# Altium footprint library INC_conn_lib.PcbLib: 3 footprints
Each footprint in its own frame and in the unit in brackets; x right, y up, seen from the top. Pads: shape width x height; smd on the part's side, far side on the other; paste and mask are expansions set on the pad; w line width, h text height; cw(c..) or ccw(c..) is an arc to the next point about the centre after c.
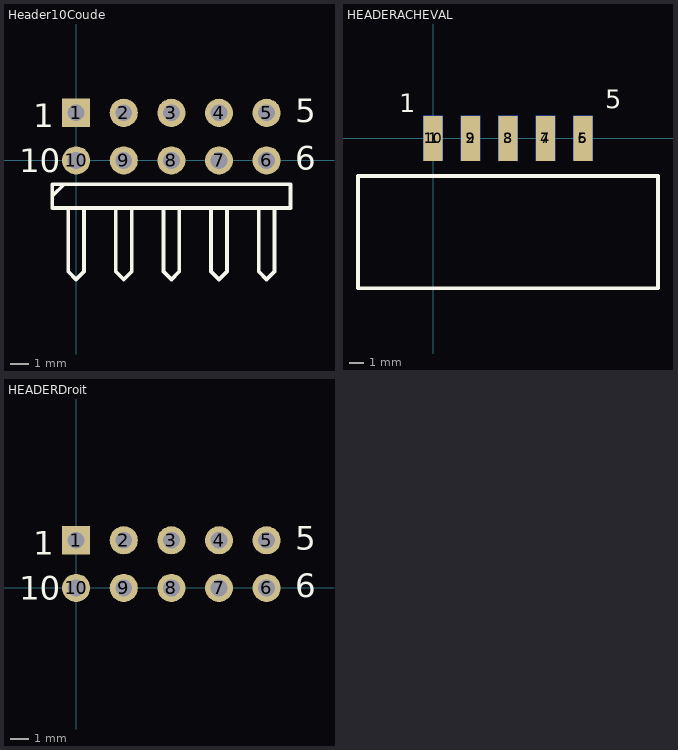
[diagram p0: the footprints below, top view; thin cyan lines are the x and y axes]

## Header10Coude [mm]
pads (10):
  rect 1.5x1.5 hole 0.9: 1(0,2.54)
  round 1.5 hole 0.9: 2(2.54,2.54) 3(5.08,2.54) 4(7.62,2.54) 5(10.16,2.54) 6(10.16,0) 7(7.62,0) 8(5.08,0) 9(2.54,0) 10(0,0)
Top Overlay:
  lines w0.2: -1.27,-1.905 -0.635,-1.27 ; -0.423,-2.54 -0.423,-5.927 0,-6.35 0.423,-5.927 0.423,-2.54 ; 2.117,-2.54 2.117,-5.927 2.54,-6.35 2.963,-5.927 2.963,-2.54 ; 4.657,-2.54 4.657,-5.927 5.08,-6.35 5.503,-5.927 5.503,-2.54 ; 7.197,-2.54 7.197,-5.927 7.62,-6.35 8.043,-5.927 8.043,-2.54 ; 9.737,-2.54 9.737,-5.927 10.16,-6.35 10.583,-5.927 10.583,-2.54 ; -1.27,-2.54 -1.27,-1.27 11.43,-1.27 11.43,-2.54 -1.27,-2.54
  text "5" at 11.684,2.032 h1.27
  text "6" at 11.684,-0.508 h1.27
  text "1" at -2.286,1.778 h1.27
  text "10" at -3.048,-0.635 h1.27

## HEADERACHEVAL [mm]
pads (10):
  rect 1.3x3.048 smd: 1(0,0) 2(2.54,0) 3(5.08,0) 4(7.62,0) 5(10.16,0)
  rect 1.3x3.048 smd far side: 6(10.16,0) 7(7.62,0) 8(5.08,0) 9(2.54,0) 10(0,0)
Top Overlay:
  lines w0.254: -5.08,-10.16 -5.08,-2.54 15.24,-2.54 15.24,-10.16 -5.08,-10.16
  text "1" at -2.286,1.778 h1.27
  text "5" at 11.684,2.032 h1.27

## HEADERDroit [mm]
pads (10):
  rect 1.5x1.5 hole 0.9: 1(0,2.54)
  round 1.5 hole 0.9: 2(2.54,2.54) 3(5.08,2.54) 4(7.62,2.54) 5(10.16,2.54) 6(10.16,0) 7(7.62,0) 8(5.08,0) 9(2.54,0) 10(0,0)
Top Overlay:
  text "5" at 11.684,2.032 h1.27
  text "6" at 11.684,-0.508 h1.27
  text "1" at -2.286,1.778 h1.27
  text "10" at -3.048,-0.635 h1.27